# EAGLE library part 744316 (library ads)
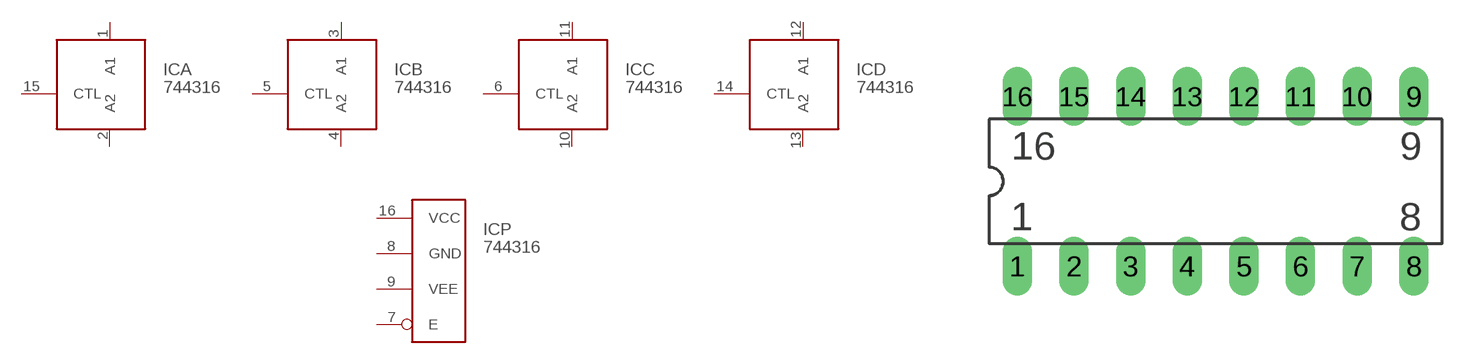
[diagram p4: symbol with the pads of DIP16; footprint DIP16]

Designator prefix IC; gates A=744316 B=744316 C=744316 D=744316 P=744316E

## 744316  [DIP16]
1  A:A1
2  A:A2
3  B:A1
4  B:A2
5  B:CTL  in
6  C:CTL  in
7  P:E  in
8  P:GND  pwr
9  P:VEE  pwr
10  C:A2
11  C:A1
12  D:A1
13  D:A2
14  D:CTL  in
15  A:CTL  in
16  P:VCC  pwr

## Footprint DIP16 (pad centres in mm)
drill 0.813 long: 1 -8.89,-3.81; 2 -6.35,-3.81; 3 -3.81,-3.81; 4 -1.27,-3.81; 5 1.27,-3.81; 6 3.81,-3.81; 7 6.35,-3.81; 8 8.89,-3.81; 9 8.89,3.81; 10 6.35,3.81; 11 3.81,3.81; 12 1.27,3.81; 13 -1.27,3.81; 14 -3.81,3.81; 15 -6.35,3.81; 16 -8.89,3.81